# EAGLE library part UNK_8 (library 1_spektrak)
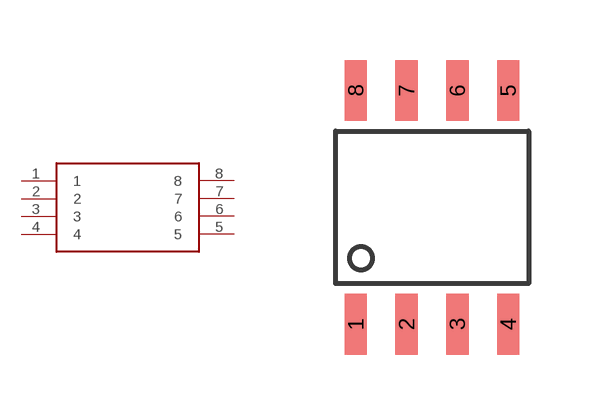
[diagram p8: symbol with the pads of SOIC8; footprint SOIC8]

Designator prefix -

## UNK_8  [SOIC8]
1  1
2  2
3  3
4  4
5  5
6  6
7  7
8  8

## Footprint SOIC8 (pad centres in mm)
smd 0.559 x 1.524: 1 -1.905,-2.921; 2 -0.635,-2.921; 3 0.635,-2.921; 4 1.905,-2.921; 5 1.905,2.921; 6 0.635,2.921; 7 -0.635,2.921; 8 -1.905,2.921